# EAGLE library part CD4066 (library pixel_masterlib)
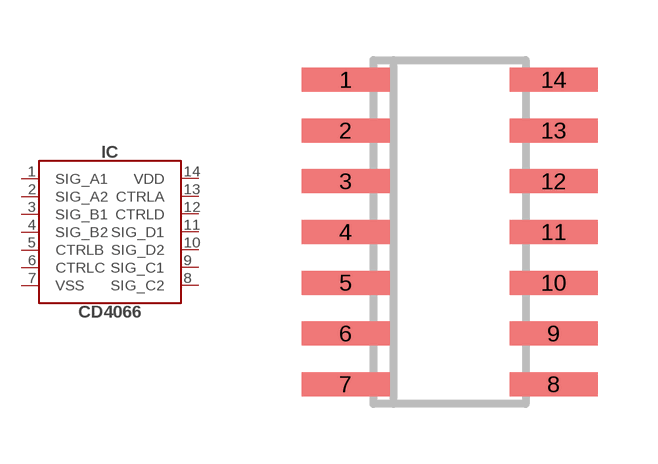
[diagram p17: symbol with the pads of SO-14; footprint SO-14]

Designator prefix IC

## CD4066 (LINK: https://www.chipdip.ru/product/cd4066bm)  [SO-14]
1  SIG_A1
2  SIG_A2
3  SIG_B1
4  SIG_B2
5  CTRLB
6  CTRLC
7  VSS
8  SIG_C2
9  SIG_C1
10  SIG_D2
11  SIG_D1
12  CTRLD
13  CTRLA
14  VDD

## Footprint SO-14 (pad centres in mm)
Small Outline Narrow Plastic Gull Wing 150-mil body, package type SL
smd 2.2 x 0.6: 1 -2.6,3.81; 2 -2.6,2.54; 3 -2.6,1.27; 4 -2.6,0; 5 -2.6,-1.27; 6 -2.6,-2.54; 7 -2.6,-3.81; 8 2.6,-3.81; 9 2.6,-2.54; 10 2.6,-1.27; 11 2.6,0; 12 2.6,1.27; 13 2.6,2.54; 14 2.6,3.81